# Altium footprint library DRTC_Footprints_V2.PcbLib: 8 footprints
Each footprint in its own frame and in the unit in brackets; x right, y up, seen from the top. Pads: shape width x height; smd on the part's side, far side on the other; paste and mask are expansions set on the pad; w line width, h text height; cw(c..) or ccw(c..) is an arc to the next point about the centre after c.
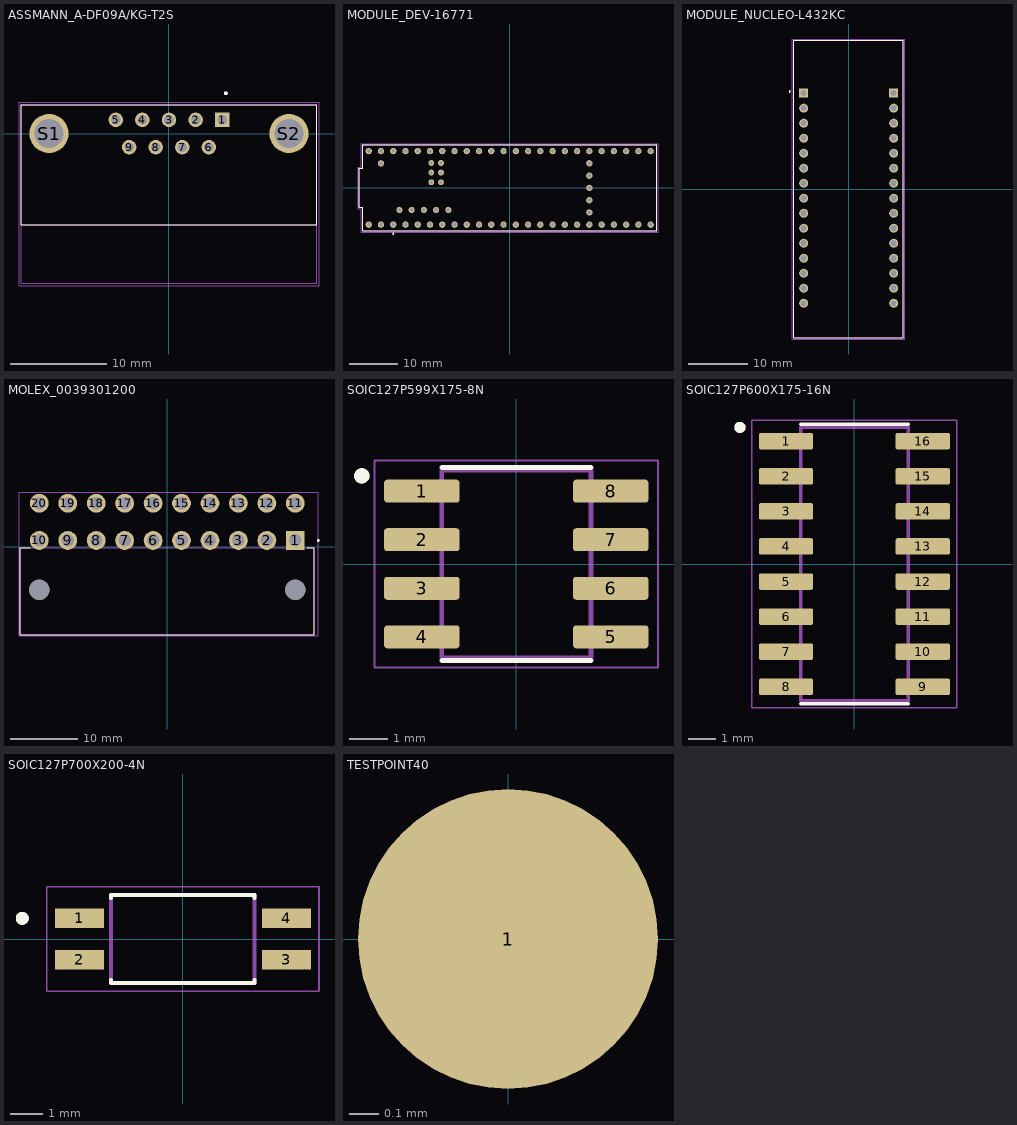
[diagram p0: the footprints below, top view; thin cyan lines are the x and y axes]

## ASSMANN_A-DF09A/KG-T2S [mm]
pads (11):
  rect 1.508x1.508 hole 1: 1(5.54,1.42)
  round 1.508 hole 1: 2(2.77,1.42) 3(0,1.42) 4(-2.77,1.42) 5(-5.54,1.42) 6(4.155,-1.42) 7(1.385,-1.42) 8(-1.385,-1.42) 9(-4.155,-1.42)
  round 4.066 hole 3.05: S1(-12.495,0) S2(12.495,0)
Top Overlay:
  circle w0.2: c5.92,4.2 r0.1
  lines w0.127: -15.405,-9.5 -15.405,3 15.405,3 15.405,-9.5 -15.405,-9.5
Mechanical 13:
  circle w0.2: c5.92,4.2 r0.1
  lines w0.127: -15.405,-9.5 15.405,-9.5 ; -15.405,-15.6 -15.405,3 15.405,3 15.405,-15.6 -15.405,-15.6
Mechanical 15:
  lines w0.05: -15.621,-15.85 -15.621,3.25 15.621,3.25 15.621,-15.85 -15.621,-15.85
3D body "step_temp.STEP": height 12.55, standoff -4.33, extent -15.405,-15.32 15.405,2.98

## MODULE_DEV-16771 [mm]
pads (65):
  round 1.308 hole 0.8: 0(-26.67,-7.62) 1(-24.13,-7.62) 2(-21.59,-7.62) 3(-19.05,-7.62) 3.3V_1(6.35,-7.62) 3.3V_2(-24.13,7.62) 3.3V_3(16.51,-2.54) 4(-16.51,-7.62) 5(-13.97,-7.62) 6(-11.43,-7.62) 7(-8.89,-7.62) 8(-6.35,-7.62) 9(-3.81,-7.62) 10(-1.27,-7.62) 11(1.27,-7.62) 12(3.81,-7.62) 13(3.81,7.62) 14(1.27,7.62) 15(-1.27,7.62) 16(-3.81,7.62) 17(-6.35,7.62) 18(-8.89,7.62) 19(-11.43,7.62) 20(-13.97,7.62) 21(-16.51,7.62) 22(-19.05,7.62) 23(-21.59,7.62) 24(8.89,-7.62) 25(11.43,-7.62) 26(13.97,-7.62) 27(16.51,-7.62) 28(19.05,-7.62) 29(21.59,-7.62) 30(24.13,-7.62) 31(26.67,-7.62) 32(29.21,-7.62) 33(29.21,7.62) 34(26.67,7.62) 35(24.13,7.62) 36(21.59,7.62) 37(19.05,7.62) 38(16.51,7.62) 39(13.97,7.62) 40(11.43,7.62) 41(8.89,7.62) GND1(-29.21,-7.62) GND2(6.35,7.62) GND3(-26.67,7.62) GND4(16.51,0) ON/OFF(16.51,5.08) PROGRAM(16.51,2.54) VBAT(16.51,-5.08) VIN(-29.21,7.62) VUSB(-26.67,5.08)
  round 1.258 hole 0.75: 5V(-22.86,-4.57) D+(-17.78,-4.57) D-(-20.32,-4.57) USB_GND1(-15.24,-4.57) USB_GND2(-12.7,-4.57)
  round 1.208 hole 0.7: GND5(-14.24,3.17) LED(-16.24,3.17) R+(-16.24,5.17) R-(-14.24,5.17) T+(-14.24,1.17) T-(-16.24,1.17)
Top Overlay:
  circle w0.2: c-24.13,-9.5 r0.1
  lines w0.127: -31.18,-4.03 -31.18,4.03 -30.48,4.03 -30.48,8.89 30.48,8.89 30.48,-8.89 -30.48,-8.89 -30.48,-4.03 -31.18,-4.03
Mechanical 13:
  circle w0.2: c-24.13,-9.5 r0.1
  lines w0.127: -31.18,-4.03 -31.18,4.03 -30.48,4.03 -30.48,8.89 30.48,8.89 30.48,-8.89 -30.48,-8.89 -30.48,-4.03 -31.18,-4.03
  text "Teensy 4.1" at -0.25,0.34 h1.27
Mechanical 15:
  lines w0.05: -31.43,-4.28 -31.43,4.28 -30.73,4.28 -30.73,9.14 30.73,9.14 30.73,-9.14 -30.73,-9.14 -30.73,-4.28 -31.43,-4.28
3D body "step_temp.STEP": height 7.15, standoff -6.7, extent -31.18,-8.89 30.48,8.89

## MODULE_NUCLEO-L432KC [mm]
pads (30):
  rect 1.53x1.53 hole 1.02: CN3_1(-7.62,16.215) CN4_1(7.62,16.215)
  round 1.53 hole 1.02: CN3_2(-7.62,13.675) CN3_3(-7.62,11.135) CN3_4(-7.62,8.595) CN3_5(-7.62,6.055) CN3_6(-7.62,3.515) CN3_7(-7.62,0.975) CN3_8(-7.62,-1.565) CN3_9(-7.62,-4.105) CN3_10(-7.62,-6.645) CN3_11(-7.62,-9.185) CN3_12(-7.62,-11.725) CN3_13(-7.62,-14.265) CN3_14(-7.62,-16.805) CN3_15(-7.62,-19.345) CN4_2(7.62,13.675) CN4_3(7.62,11.135) CN4_4(7.62,8.595) CN4_5(7.62,6.055) CN4_6(7.62,3.515) CN4_7(7.62,0.975) CN4_8(7.62,-1.565) CN4_9(7.62,-4.105) CN4_10(7.62,-6.645) CN4_11(7.62,-9.185) CN4_12(7.62,-11.725) CN4_13(7.62,-14.265) CN4_14(7.62,-16.805) CN4_15(7.62,-19.345)
Top Overlay:
  circle w0.2: c-10,16.5 r0.1
  lines w0.127: -9.27,-25.145 9.27,-25.145 9.27,25.145 -9.27,25.145 -9.27,-25.145
Mechanical 13:
  circle w0.2: c-10,16.5 r0.1
  lines w0.127: -9.27,-25.145 -9.27,25.145 9.27,25.145 9.27,-25.145 -9.27,-25.145
Mechanical 15:
  lines w0.05: -9.52,-25.395 -9.52,25.395 9.52,25.395 9.52,-25.395 -9.52,-25.395
3D body "MB1180.step": height 6.26, standoff -10.14, extent -9.271,-25.819 9.271,26.187

## MOLEX_0039301200 [mm]
pads (22):
  rect 2.775x2.775 hole 1.85: 1(18.9,0.9)
  round 2.775 hole 1.85: 2(14.7,0.9) 3(10.5,0.9) 4(6.3,0.9) 5(2.1,0.9) 6(-2.1,0.9) 7(-6.3,0.9) 8(-10.5,0.9) 9(-14.7,0.9) 10(-18.9,0.9) 11(18.9,6.4) 12(14.7,6.4) 13(10.5,6.4) 14(6.3,6.4) 15(2.1,6.4) 16(-2.1,6.4) 17(-6.3,6.4) 18(-10.5,6.4) 19(-14.7,6.4) 20(-18.9,6.4)
  round 3 hole 3.05 unplated: ""(-18.9,-6.4) ""(18.9,-6.4)
Top Overlay:
  circle w0.2: c22.3,0.9 r0.1
  lines w0.127: -20.21,-0.2 -21.7,-0.2 -21.7,-13 21.7,-13 21.7,-0.2 20.61,-0.2
Mechanical 13:
  circle w0.2: c22.3,0.9 r0.1
  lines w0.127: -21.7,-13 -21.7,-0.2 21.7,-0.2 21.7,-13 -21.7,-13
Mechanical 15:
  lines w0.05: -21.9,-13.2 -21.9,8.04 22.3,8.04 22.3,-13.2 -21.9,-13.2
3D body "039301200.stp": height 11.4, standoff -3.6, extent -21.6,-13 22,6.935

## SOIC127P599X175-8N [mm]
pads (8):
  rrect25% 1.97x0.6 smd: 1(-2.47,1.905) 2(-2.47,0.635) 3(-2.47,-0.635) 4(-2.47,-1.905) 5(2.47,-1.905) 6(2.47,-0.635) 7(2.47,0.635) 8(2.47,1.905)
Top Overlay:
  circle w0.2: c-4.04,2.305 r0.1
  lines w0.127: -1.95,-2.525 1.95,-2.525 ; -1.95,2.525 1.95,2.525
Mechanical 13:
  circle w0.2: c-4.04,2.305 r0.1
  lines w0.127: -1.95,-2.452 -1.95,2.452 1.95,2.452 1.95,-2.452 -1.95,-2.452
Mechanical 15:
  lines w0.05: -3.705,-2.702 -3.705,2.702 3.705,2.702 3.705,-2.702 -3.705,-2.702
3D body "step_temp.STEP": height 1.75, standoff 0, extent -3,-2.45 3,2.45

## SOIC127P600X175-16N [mm]
pads (16):
  rrect25% 1.97x0.6 smd: 1(-2.475,4.445) 2(-2.475,3.175) 3(-2.475,1.905) 4(-2.475,0.635) 5(-2.475,-0.635) 6(-2.475,-1.905) 7(-2.475,-3.175) 8(-2.475,-4.445) 9(2.475,-4.445) 10(2.475,-3.175) 11(2.475,-1.905) 12(2.475,-0.635) 13(2.475,0.635) 14(2.475,1.905) 15(2.475,3.175) 16(2.475,4.445)
Top Overlay:
  circle w0.2: c-4.145,4.945 r0.1
  lines w0.127: -1.95,-5.065 1.95,-5.065 ; -1.95,5.065 1.95,5.065
Mechanical 13:
  circle w0.2: c-4.145,4.945 r0.1
  lines w0.127: -1.95,-4.95 1.95,-4.95 1.95,4.95 -1.95,4.95 -1.95,-4.95
Mechanical 15:
  lines w0.05: -3.71,-5.2 3.71,-5.2 3.71,5.2 -3.71,5.2 -3.71,-5.2
3D body "step_temp.STEP": height 1.75, standoff 0, extent -2.997,-4.953 2.997,4.953

## SOIC127P700X200-4N [mm]
pads (4):
  rect 1.5x0.6 smd: 1(-3.175,0.635) 2(-3.175,-0.635) 3(3.175,-0.635) 4(3.175,0.635)
Top Overlay:
  circle w0.2: c-4.925,0.635 r0.1
  lines w0.127: -2.2,-1.255 -2.2,-1.35 2.2,-1.35 2.2,-1.255 ; -2.2,1.255 -2.2,1.35 2.2,1.35 2.2,1.255
Mechanical 13:
  circle w0.2: c-4.925,0.635 r0.1
  lines w0.127: -2.2,-1.35 2.2,-1.35 2.2,1.35 -2.2,1.35 -2.2,-1.35
Mechanical 15:
  lines w0.05: -4.175,-1.6 4.175,-1.6 4.175,1.6 -4.175,1.6 -4.175,-1.6
3D body "EL3H7(C)-VG.STEP": height 2, standoff 0, extent -3.5,-1.35 3.5,1.35

## TESTPOINT40 [mil]
pads (1):
  round 40 smd: 1(0,0)